# Altium schematic symbol library lmz12001.SchLib: 1 symbol
Pins are listed as number, name and electrical type; pins without a type are passive.

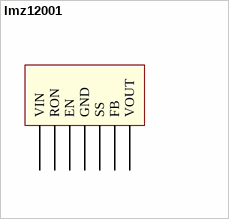
[diagram p0: symbol lmz12001]

## lmz12001
designator DC?, comment DC-DC SWITCHER  (value not drawn)
footprint PFM-7 (Footprint with 7 pins for LMZ12001 - DC-DC converter)
pins: 1 VIN, 2 RON, 3 EN, 4 GND, 5 SS, 6 FB, 7 VOUT